# EAGLE library part LY3200ALH (library IMU)
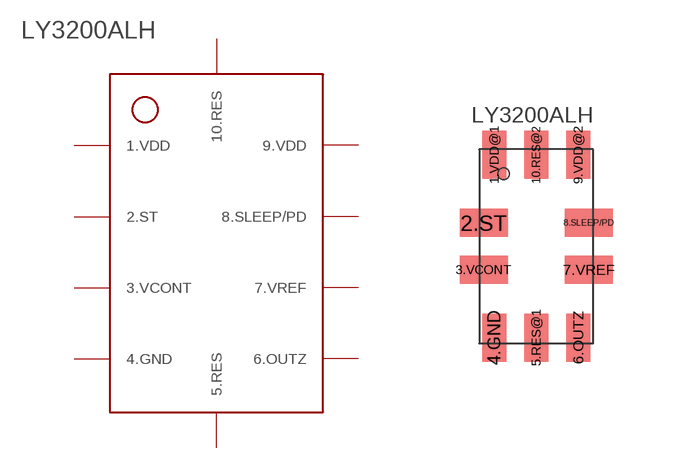
[diagram p2: symbol with the pads of LY3200ALH; footprint LY3200ALH]

Designator prefix -

## LY3200ALH  [LY3200ALH]
1.VDD@1  1.VDD
2.ST  2.ST
3.VCONT  3.VCONT
4.GND  4.GND
5.RES@1  5.RES
6.OUTZ  6.OUTZ
7.VREF  7.VREF
8.SLEEP/PD  8.SLEEP/PD
9.VDD@2  9.VDD
10.RES@2  10.RES

## Footprint LY3200ALH (pad centres in mm)
smd 0.6 x 1.2: 1.VDD@1 -1.065,2.37; 4.GND -1.065,-2.2; 5.RES@1 -0.015,-2.2; 6.OUTZ 1.035,-2.2; 9.VDD@2 1.035,2.37; 10.RES@2 -0.015,2.37
smd 1.2 x 0.7: 2.ST -1.33,0.67; 3.VCONT -1.33,-0.5; 7.VREF 1.3,-0.5; 8.SLEEP/PD 1.3,0.67